# Altium footprint library recall.PcbLib: 36 footprints (part 2 of 3)
Each footprint in its own frame and in the unit in brackets; x right, y up, seen from the top. Pads: shape width x height; smd on the part's side, far side on the other; paste and mask are expansions set on the pad; w line width, h text height; cw(c..) or ccw(c..) is an arc to the next point about the centre after c.
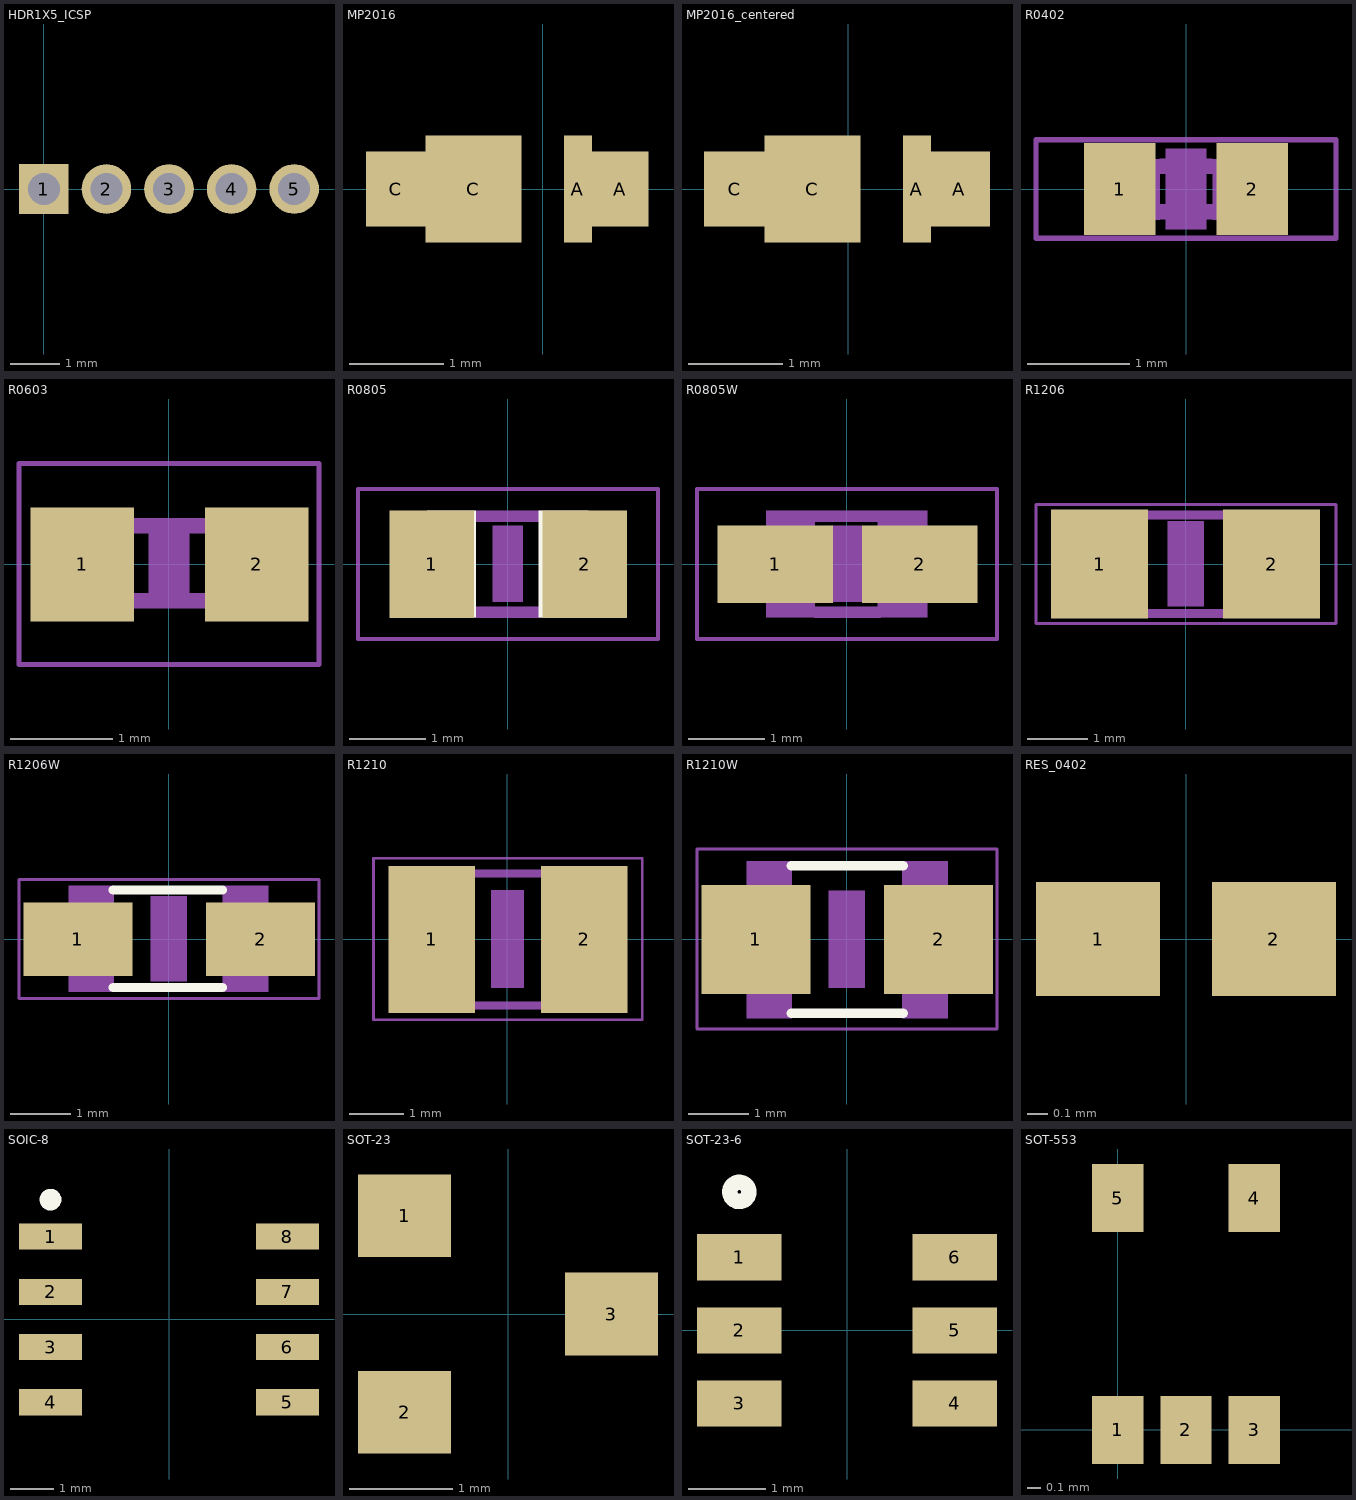
[diagram p1: the footprints below, top view; thin cyan lines are the x and y axes]

## HDR1X5_ICSP [mm] "Connector; Header; 1x5Position"
pads (5):
  rect 1.006x1.006 hole 0.65: 1(0,0)
  round 1.006 hole 0.65: 2(1.27,0) 3(2.54,0) 4(3.81,0) 5(5.08,0)

## MP2016 [mm] "Luminus XNOVA LED"
pads (4):
  rect 0.3x1.14 smd: A(0.375,0)
  rect 0.6x0.8 smd: A(0.825,0)
  rect 0.63x0.8 smd: C(-1.56,0)
  rect 1.02x1.14 smd: C(-0.735,0)
3D body "MP2016.step": height 0.55, standoff 0.03, extent -1.355,-0.799 0.645,0.801

## MP2016_centered [mm] "Luminus XNOVA LED"
pads (4):
  rect 0.3x1.14 smd: A(0.731,0)
  rect 0.65x0.8 smd: A(1.181,0) C(-1.204,0)
  rect 1.02x1.14 smd: C(-0.379,0)
3D body "MP2016.step": height 0.55, standoff 0.03, extent -0.999,-0.799 1.001,0.801

## R0402 [mm]
pads (2):
  rect 0.7x0.9 smd: 1(-0.65,0) 2(0.65,0)
Mechanical 6:
  rectangle: -0.2,-0.4 0.2,0.4
Mechanical 16:
  rectangle: 0.259,-0.305 0.559,0.295
  rectangle: -0.554,-0.305 -0.254,0.295
  lines w0.152: -0.245,-0.224 0.245,-0.224 ; -0.245,0.224 0.245,0.224
Mechanical 27:
  lines w0.051: -1.473,-0.483 -1.473,0.483 1.473,0.483 1.473,-0.483 -1.473,-0.483

## R0603 [mil]
pads (2):
  rect 40x44 smd: 1(-33.46,0) 2(34,0)
Mechanical 6:
  rectangle: -7.87,-15.75 8,16
Mechanical 16:
  rectangle: 17,-17 33,17
  rectangle: -33,-17 -17,17
  lines w6: -17.01,-14.02 18,-14.02 ; -17.01,15 18,15
Mechanical 27:
  lines w2: -57.99,-38.7 58,-38.7 58,39 -57.99,39 -57.99,-38.7

## R0805 [mil]
pads (2):
  rect 44x56 smd: 1(-39.37,0) 2(40,0)
Top Overlay:
  rectangle: 16,-27.5 42,28
  rectangle: -42,-27.5 -16.41,28
Mechanical 6:
  rectangle: -7.87,-19.69 8,20
Mechanical 16:
  lines w6: -16.14,-25 17,-25 ; -16.14,25 17,25
Mechanical 27:
  lines w2: -77.68,-38.7 78,-38.7 78,39 -77.68,39 -77.68,-38.7

## R0805W [mil]
pads (2):
  rect 60x40 smd: 1(-37.01,0) 2(38,0)
Mechanical 6:
  rectangle: -7.87,-19.69 8,20
Mechanical 16:
  rectangle: 16,-27.5 42,28
  rectangle: -42,-27.5 -16.41,28
  lines w6: -16.14,-25 17,-25 ; -16.14,25 17,25
Mechanical 27:
  lines w2: -77.68,-38.7 78,-38.7 78,39 -77.68,39 -77.68,-38.7

## R1206 [mil]
pads (2):
  rect 63x71 smd: 1(-55.98,0) 2(56,0)
Mechanical 6:
  rectangle: -11.81,-27.56 12,28
Mechanical 16:
  rectangle: 38,-34.5 67,35
  rectangle: -66.5,-34.5 -37.5,35
  lines w6: -38,-32 38,-32 ; -38,32 38,32
Mechanical 27:
  lines w2: -97.36,-38.7 -97.36,39 98,39 98,-38.7 -97.36,-38.7

## R1206W [mil]
pads (2):
  rect 71x48 smd: 1(-59.02,0) 2(60,0)
Top Overlay:
  lines w6: -35.94,-31.5 35,-31.5 ; -35.94,32 35,32
Mechanical 6:
  rectangle: -11.81,-27.56 12,28
Mechanical 16:
  rectangle: 35,-34.5 65,35
  rectangle: -65,-34.5 -35.47,35
Mechanical 27:
  lines w2: -97.36,-38.7 -97.36,39 98,39 98,-38.7 -97.36,-38.7

## R1210 [mil]
pads (2):
  rect 63x107 smd: 1(-55.12,0) 2(56,0)
Mechanical 6:
  rectangle: -11.81,-35.43 12,36
Mechanical 16:
  rectangle: -65,-51.5 -35.47,51
  rectangle: 36,-51.5 66,51
  lines w6: -35.94,-47.99 37,-47.99 ; -35.94,48 37,48
Mechanical 27:
  lines w2: -97.36,-58.39 98,-58.39 98,59 -97.36,59 -97.36,-58.39

## R1210W [mil]
pads (2):
  rect 71x71 smd: 1(-59.02,0) 2(60,0)
Top Overlay:
  lines w6: -35.94,-47.99 37,-47.99 ; -35.94,48 37,48
Mechanical 6:
  rectangle: -11.81,-31.5 12,32
Mechanical 16:
  rectangle: 36,-51.5 66,51
  rectangle: -65,-51.5 -35.47,51
Mechanical 27:
  lines w2: -97.36,-58.39 -97.36,59 98,59 98,-58.39 -97.36,-58.39

## RES_0402 [mm]
pads (2):
  rect 0.6x0.55 smd: 1(-0.425,0) 2(0.425,0)
3D body "RES_1005-0402.step": height 0.41, standoff 0, extent -0.575,-0.275 0.575,0.275

## SOIC-8 [mm] "LMC555"
height 1.75
pads (8):
  rect 1.45x0.6 smd: 1(-2.725,1.905) 2(-2.725,0.635) 3(-2.725,-0.635) 4(-2.725,-1.905) 5(2.725,-1.905) 6(2.725,-0.635) 7(2.725,0.635) 8(2.725,1.905)
Top Overlay:
  circle w0.25: c-2.725,2.755 r0.125
3D body "SOIC-8.step": height 1.75, standoff 0, extent -3,-2.5 3,2.5

## SOT-23 [mm]
height 1.11
pads (3):
  rect 0.9x0.8 smd: 1(-1,0.95) 2(-1,-0.95) 3(1,0)
3D body: height 1.11, standoff 0.1, extent -0.7,-1.52 0.7,1.52

## SOT-23-6 [mm] "PIC10F320"
height 1.15
pads (6):
  rect 1.1x0.6 smd: 1(-1.4,0.95) 2(-1.4,0) 3(-1.4,-0.95) 4(1.4,-0.95) 5(1.4,0) 6(1.4,0.95)
Top Overlay:
  circle w0.2: c-1.4,1.8 r0.125
3D body "SOT-23-8.step": height 1.14, standoff 0, extent -1.7,-1.55 1.7,1.55

## SOT-553 [mm]
height 0.6
pads (5):
  rect 0.375x0.5 smd: 1(0,0) 2(0.5,0) 3(1,0) 4(1,1.7) 5(0,1.7)
Top Overlay:
  text "." at -0.65,-0.025 h0.89
3D body "sot-553.STEP": height 0.5, standoff 0, extent -0.3,0.05 1.3,1.65